# EAGLE library part LM2671 (library microbuilder)
LM2671 High Efficiency 500mA Switching Step-Down Voltage Regulator. 6.5-40V Input. 3.3V SOIC-8: Digikey LM2671M-3.3-ND
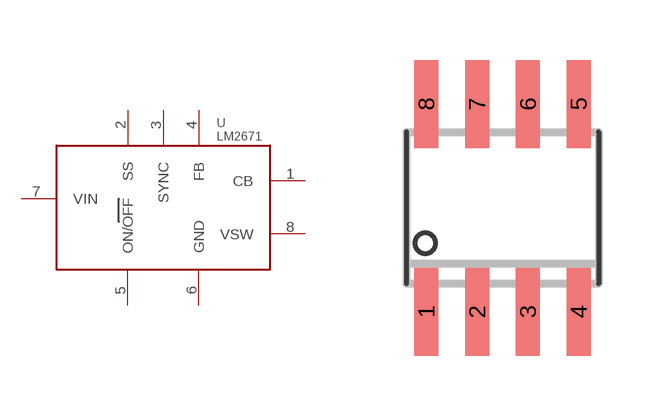
[diagram p55: symbol with the pads of SOIC8; footprint SOIC8]

Designator prefix U

## LM2671  [SOIC8]
1  CB
2  SS
3  SYNC
4  FB
5  ON/OFF
6  GND
7  VIN
8  VSW

## Footprint SOIC8 (pad centres in mm)
Small Outline IC
smd 0.6 x 2.2: 1 -1.905,-2.6; 2 -0.635,-2.6; 3 0.635,-2.6; 4 1.905,-2.6; 5 1.905,2.6; 6 0.635,2.6; 7 -0.635,2.6; 8 -1.905,2.6